# Altium footprint library ECS ECX-53.PcbLib: 1 footprints
Each footprint in its own frame and in the unit in brackets; x right, y up, seen from the top. Pads: shape width x height; smd on the part's side, far side on the other; paste and mask are expansions set on the pad; w line width, h text height; cw(c..) or ccw(c..) is an arc to the next point about the centre after c.
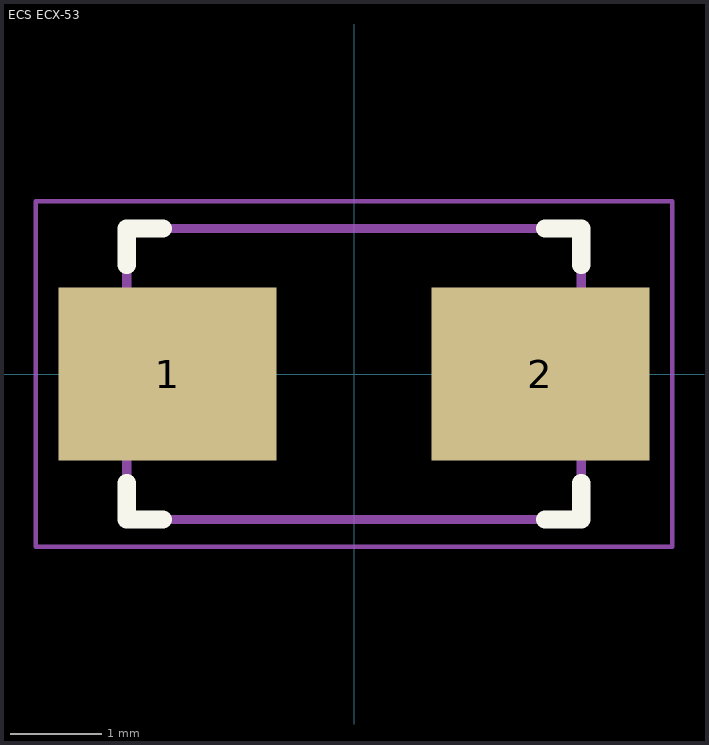
[diagram p0: the footprint, top view; thin cyan lines are the x and y axes]

## ECS ECX-53 [mm] "SMD Crystal 5 x 3.2mm"
height 1.1
pads (2):
  rect 2.4x1.9 smd: 1(-2.05,0) 2(2.05,0)
Top Overlay:
  lines w0.2: -2.5,-1.2 -2.5,-1.6 -2.1,-1.6 ; -2.5,1.2 -2.5,1.6 -2.1,1.6 ; 2.1,-1.6 2.5,-1.6 2.5,-1.2 ; 2.1,1.6 2.5,1.6 2.5,1.2
Top Assembly:
  lines w0.1: -2.5,-1.6 2.5,-1.6 2.5,1.6 -2.5,1.6 -2.5,-1.6
Top Courtyard:
  lines w0.05: -3.5,-1.9 3.5,-1.9 3.5,1.9 -3.5,1.9 -3.5,-1.9
Top Designator:
  text ".Designator" at -4.998,-0.333 h1
3D body "ECS-80-18-30-JGN-TR.STEP": height 1.4, standoff 0, extent -2.5,-1.6 2.5,1.6